# Altium schematic symbol library 血氧模块原理图封装Schlib1.SchLib: 1 symbol
Pins are listed as number, name and electrical type; pins without a type are passive.

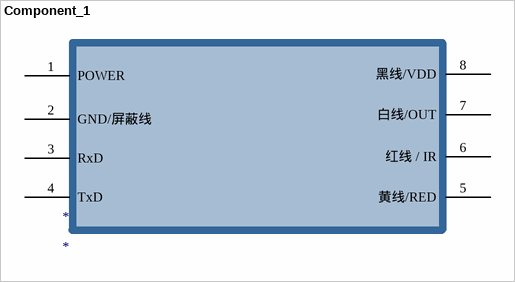
[diagram p0: symbol Component_1]

## Component_1
designator *
pins: 1 POWER, 2 GND/屏蔽线, 3 RxD, 4 TxD, 5 黄线/RED, 6 红线 / IR, 7 白线/OUT, 8 黑线/VDD